# Altium schematic symbol library STM32H725VGT.SchLib: 1 symbol
Pins are listed as number, name and electrical type; pins without a type are passive.

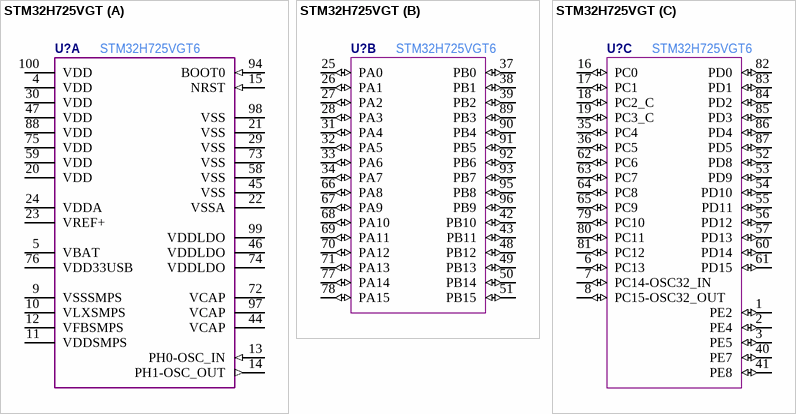
[diagram p0: symbol STM32H725VGT]

## STM32H725VGT
designator U?  Manufacturer Part Number: STM32H725VGT6  (hidden comment: *)
part A pins: 4 VDD (power), 5 VBAT (power), 9 VSSSMPS (power), 10 VLXSMPS (power), 11 VDDSMPS (power), 12 VFBSMPS (power), 13 PH0-OSC_IN (in), 14 PH1-OSC_OUT (out), 15 NRST (in), 20 VDD (power), 21 VSS (power), 22 VSSA (power), 23 VREF+ (power), 24 VDDA (power), 29 VSS (power), 30 VDD (power), 44 VCAP (power), 45 VSS (power), 46 VDDLDO (power), 47 VDD (power), 58 VSS (power), 59 VDD (power), 72 VCAP (power), 73 VSS (power), 74 VDDLDO (power), 75 VDD (power), 76 VDD33USB (power), 88 VDD (power), 94 BOOT0 (in), 97 VCAP (power), 98 VSS (power), 99 VDDLDO (power), 100 VDD (power)
part B pins: 25 PA0 (io), 26 PA1 (io), 27 PA2 (io), 28 PA3 (io), 31 PA4 (io), 32 PA5 (io), 33 PA6 (io), 34 PA7 (io), 37 PB0 (io), 38 PB1 (io), 39 PB2 (io), 42 PB10 (io), 43 PB11 (io), 48 PB12 (io), 49 PB13 (io), 50 PB14 (io), 51 PB15 (io), 66 PA8 (io), 67 PA9 (io), 68 PA10 (io), 69 PA11 (io), 70 PA12 (io), 71 PA13 (io), 77 PA14 (io), 78 PA15 (io), 89 PB3 (io), 90 PB4 (io), 91 PB5 (io), 92 PB6 (io), 93 PB7 (io), 95 PB8 (io), 96 PB9 (io)
part C pins: 1 PE2 (io), 2 PE4 (io), 3 PE5 (io), 6 PC13 (io), 7 PC14-OSC32_IN (io), 8 PC15-OSC32_OUT (io), 16 PC0 (io), 17 PC1 (io), 18 PC2_C (io), 19 PC3_C (io), 35 PC4 (io), 36 PC5 (io), 40 PE7 (io), 41 PE8 (io), 52 PD8 (io), 53 PD9 (io), 54 PD10 (io), 55 PD11 (io), 56 PD12 (io), 57 PD13 (io), 60 PD14 (io), 61 PD15 (io), 62 PC6 (io), 63 PC7 (io), 64 PC8 (io), 65 PC9 (io), 79 PC10 (io), 80 PC11 (io), 81 PC12 (io), 82 PD0 (io), 83 PD1 (io), 84 PD2 (io), 85 PD3 (io), 86 PD4 (io), 87 PD5 (io)